# Altium integrated library 6N138.IntLib: 1 symbol
Pins are listed as number, name and electrical type; pins without a type are passive.

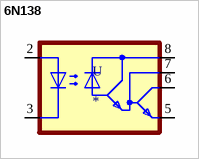
[diagram p0: symbol 6N138]

## 6N138
designator U
Optoisolator Darlington with Base Output 5000Vrms 1 Channel 8-DIP; MP: 6N138; MF: Isocom Components; SnapEDA_Link: https://www.snapeda.com/parts/6N138/Isocom%20Components%202004%20LTD/view-part/319663/?ref=snap; Package: DIP-8 Vishay; Value: *; Availability: Unavailable; Price: None
footprint DIP762W50P254L1018H450Q8
pins: 2 A, 3 C, 5 GND, 6 VO, 7 VB, 8 VCC